# Altium schematic symbol library Opamp_ICs.SchLib: 2 symbols
Pins are listed as number, name and electrical type; pins without a type are passive.

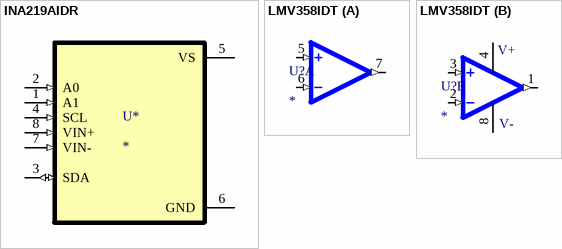
[diagram p0: symbols INA219AIDR to LMV358IDT]

## INA219AIDR
designator U*
26-V 12-bit I2C output digital power monitor
footprint INA219AIDR (26-V 12-bit I2C output digital power monitor)
pins: 1 A1 (in), 2 A0 (in), 3 SDA (io), 4 SCL (in), 5 VS (power), 6 GND (power), 7 VIN- (in), 8 VIN+ (in)

## LMV358IDT
designator U?
Standard (General Purpose) Amplifier 2 Circuit Rail-to-Rail 8-SOIC
footprint LMV358IDT (Standard (General Purpose) Amplifier 2 Circuit Rail-to-Rail 8-SOIC)
part A pins: 5 NON-INVERTING_INPUT2 (in), 6 INVERTING_INPUT2 (in), 7 OUTPUT2 (out)
part B pins: 1 OUTPUT1 (out), 2 INVERTING_INPUT1 (in), 3 NON-INVERTING_INPUT1 (in), 4 VDD (power), 8 VCC (power)
part B text: V+; V-